# Altium footprint library IND SRP4012CC.PcbLib: 1 footprints
Each footprint in its own frame and in the unit in brackets; x right, y up, seen from the top. Pads: shape width x height; smd on the part's side, far side on the other; paste and mask are expansions set on the pad; w line width, h text height; cw(c..) or ccw(c..) is an arc to the next point about the centre after c.
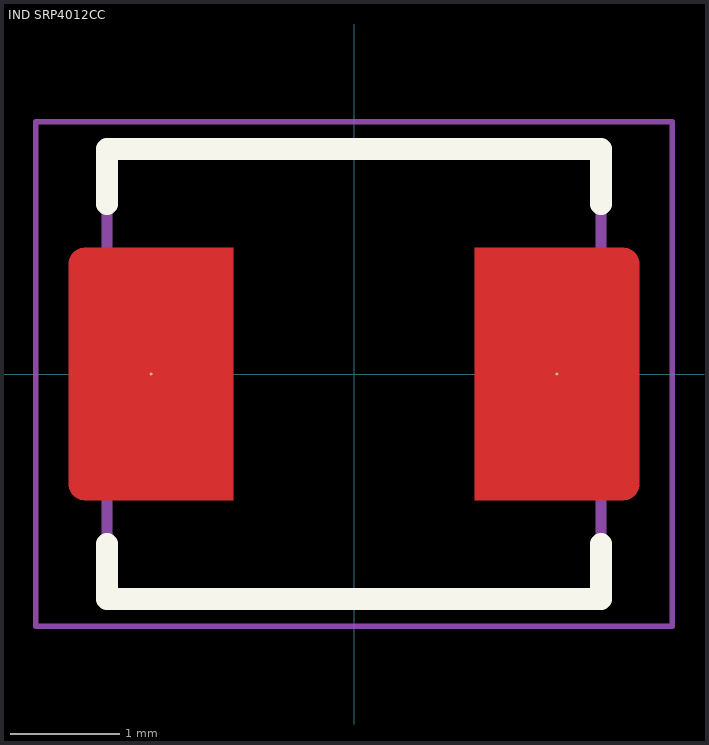
[diagram p0: the footprint, top view; thin cyan lines are the x and y axes]

## IND SRP4012CC [mil] "Bourns SRP4012CC series"
height 47.24
pads (2):
  round 1 smd: 1(-72.83,0) 2(72.83,0)
Top Layer:
  region: 102.36,39.37 102.36,39.95 102.14,41.09 101.69,42.17 101.04,43.13 100.22,43.96 99.25,44.6 98.18,45.05 97.04,45.28 96.46,45.28 43.31,45.28 43.31,-45.28 96.46,-45.28 97.04,-45.28 98.18,-45.05 99.25,-44.6 100.22,-43.96 101.04,-43.13 101.69,-42.17 102.14,-41.09 102.36,-39.95 102.36,-39.37
  region: -102.36,-39.37 -102.36,-39.95 -102.14,-41.09 -101.69,-42.17 -101.04,-43.13 -100.22,-43.96 -99.25,-44.6 -98.18,-45.05 -97.04,-45.28 -96.46,-45.28 -43.31,-45.28 -43.31,45.28 -96.46,45.28 -97.04,45.28 -98.18,45.05 -99.25,44.6 -100.22,43.96 -101.04,43.13 -101.69,42.17 -102.14,41.09 -102.36,39.95 -102.36,39.37
Top Overlay:
  lines w7.87: -88.58,-61.02 -88.58,-80.71 88.58,-80.71 88.58,-61.02 ; -88.58,61.02 -88.58,80.71 88.58,80.71 88.58,61.02
Top Assembly:
  lines w3.94: -88.58,-80.71 -88.58,80.71 88.58,80.71 88.58,-80.71 -88.58,-80.71
Top Courtyard:
  lines w1.97: -114.17,-90.55 -114.17,90.55 114.17,90.55 114.17,-90.55 -114.17,-90.55
Top Designator:
  text ".Designator" at -196.79,-13.12 h39.37
3D body "3D_SRP4012CC SERIES.stp": height 39.76, standoff -0.79, extent -88.58,-80.71 88.58,80.71